# Altium footprint library PcbLib1.PcbLib: 16 footprints
Each footprint in its own frame and in the unit in brackets; x right, y up, seen from the top. Pads: shape width x height; smd on the part's side, far side on the other; paste and mask are expansions set on the pad; w line width, h text height; cw(c..) or ccw(c..) is an arc to the next point about the centre after c.
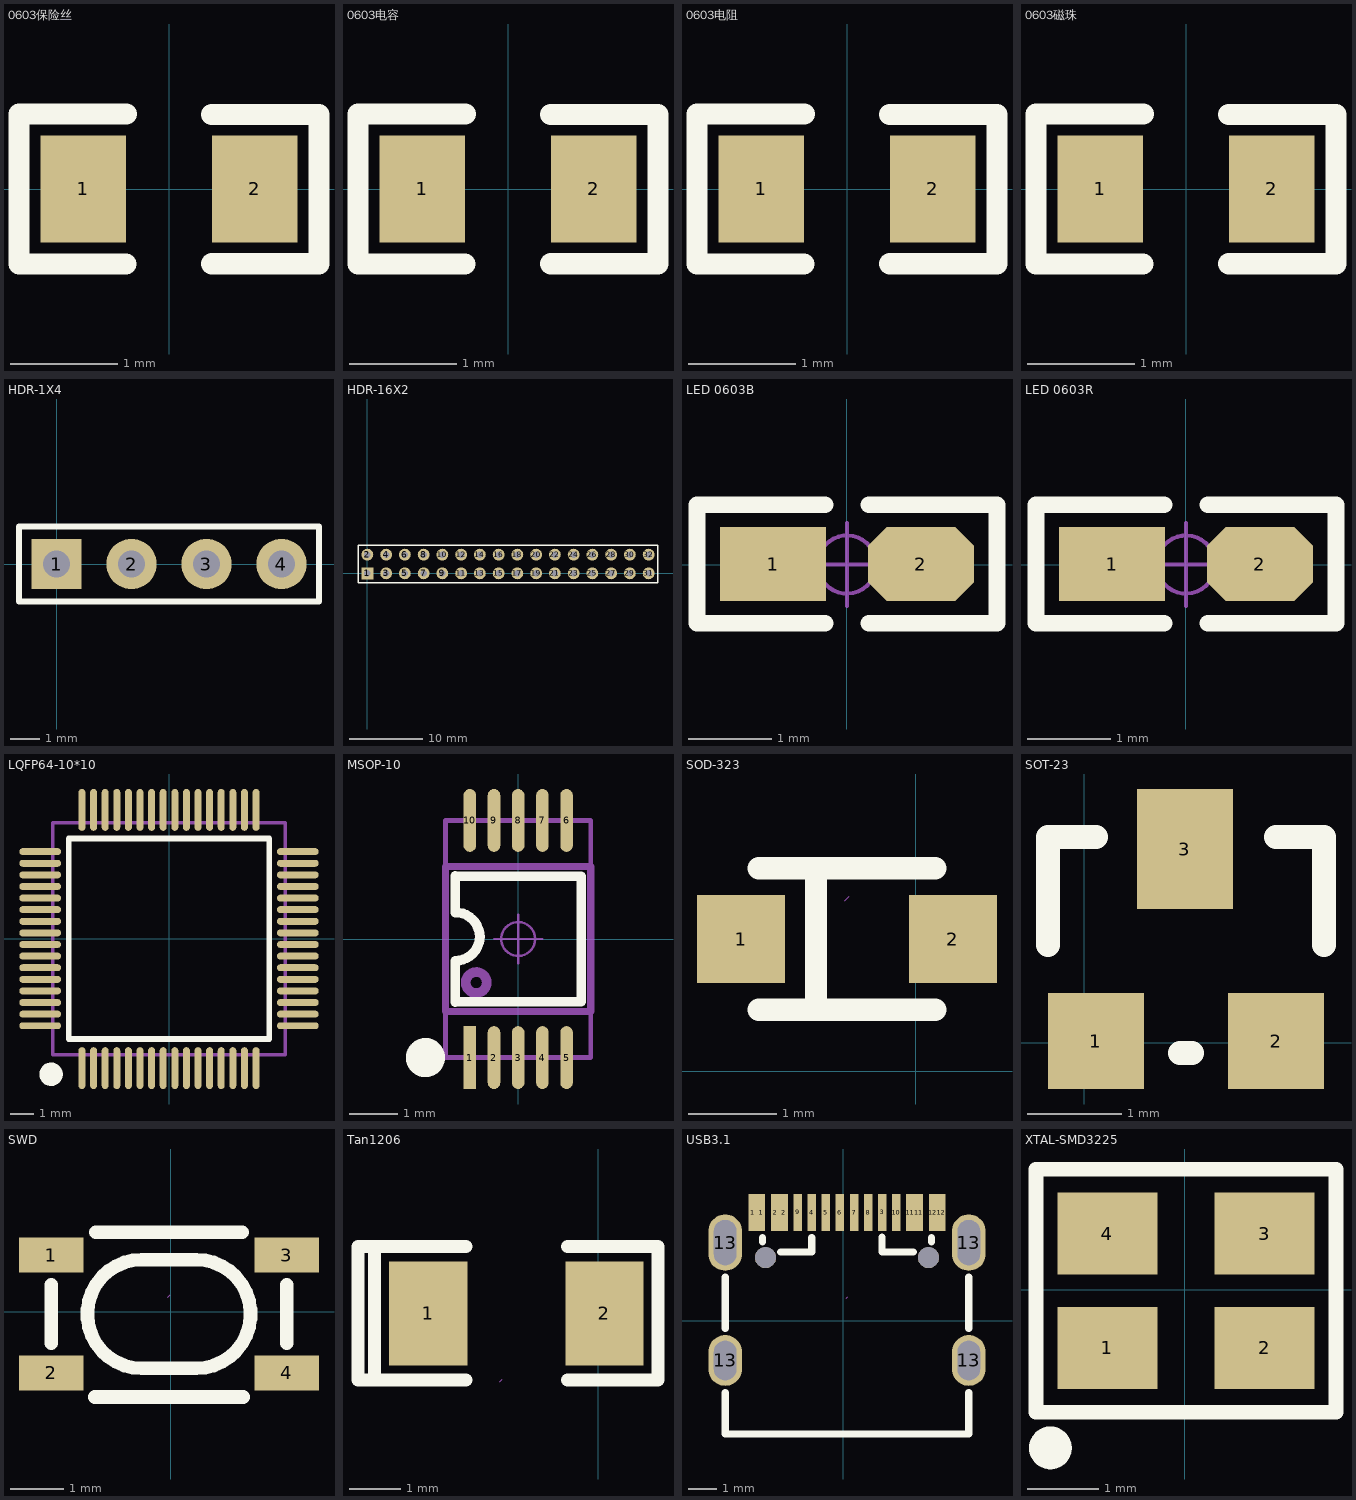
[diagram p0: the footprints below, top view; thin cyan lines are the x and y axes]

## 0603保险丝 [mm]
pads (2):
  rect 0.8x1 smd: 1(-0.8,0) 2(0.8,0)
Top Overlay:
  lines w0.2: -0.402,-0.7 -0.651,-0.7 -1.15,-0.7 -1.4,-0.7 -1.4,0.7 -0.4,0.7 ; 0.4,-0.698 1.4,-0.698 1.4,0.695 0.4,0.695
3D body "FU 0603.STEP": height 0.52, standoff 0, extent -0.8,-0.41 0.8,0.41

## 0603电容 [mm]
pads (2):
  rect 0.8x1 smd: 1(-0.8,0) 2(0.8,0)
Top Overlay:
  lines w0.2: -0.402,-0.7 -0.651,-0.7 -1.15,-0.7 -1.4,-0.7 -1.4,0.7 -0.4,0.7 ; 0.4,-0.698 1.4,-0.698 1.4,0.695 0.4,0.695
3D body "CAPC1608(0603).STEP": height 0.6, standoff 0, extent -0.8,-0.4 0.8,0.4

## 0603电阻 [mm]
pads (2):
  rect 0.8x1 smd: 1(-0.8,0) 2(0.8,0)
Top Overlay:
  lines w0.2: -0.402,-0.7 -0.651,-0.7 -1.15,-0.7 -1.4,-0.7 -1.4,0.7 -0.4,0.7 ; 0.4,-0.698 1.4,-0.698 1.4,0.695 0.4,0.695
3D body "R0603.STEP": height 0.45, standoff 0, extent -0.8,-0.4 0.8,0.4

## 0603磁珠 [mm]
pads (2):
  rect 0.8x1 smd: 1(-0.8,0) 2(0.8,0)
Top Overlay:
  lines w0.2: -0.402,-0.7 -0.651,-0.7 -1.15,-0.7 -1.4,-0.7 -1.4,0.7 -0.4,0.7 ; 0.4,-0.698 1.4,-0.698 1.4,0.695 0.4,0.695
3D body "0603.STEP": height 0.8, standoff 0, extent -0.8,-0.4 0.8,0.4

## HDR-1X4 [mm] "排针，4脚"
pads (4):
  rect 1.7x1.7 hole 0.9: 1(0,0)
  round 1.7 hole 0.9: 2(2.54,0) 3(5.08,0) 4(7.62,0)
Top Overlay:
  lines w0.2: -1.27,-1.27 8.89,-1.27 8.89,1.27 -1.27,1.27 -1.27,-1.27
3D body "HDR2.54-1P.STEP": height 8.5, standoff -3, extent 6.35,-1.27 8.89,1.27
3D body "HDR2.54-1P.STEP": height 8.5, standoff -3, extent 3.81,-1.27 6.35,1.27
3D body "HDR2.54-1P.STEP": height 8.5, standoff -3, extent 1.27,-1.27 3.81,1.27
3D body "HDR2.54-1P.STEP": height 8.5, standoff -3, extent -1.27,-1.27 1.27,1.27

## HDR-16X2 [mm] "双排排针，16x2脚"
pads (32):
  rect 1.6x1.6 hole 0.9: 1(0,0)
  round 1.6 hole 0.9: 2(0,2.54) 3(2.54,0) 4(2.54,2.54) 5(5.08,0) 6(5.08,2.54) 7(7.62,0) 8(7.62,2.54) 9(10.16,0) 10(10.16,2.54) 11(12.7,0) 12(12.7,2.54) 13(15.24,0) 14(15.24,2.54) 15(17.78,0) 16(17.78,2.54) 17(20.32,0) 18(20.32,2.54) 19(22.86,0) 20(22.86,2.54) 21(25.4,0) 22(25.4,2.54) 23(27.94,0) 24(27.94,2.54) 25(30.48,0) 26(30.48,2.54) 27(33.02,0) 28(33.02,2.54) 29(35.56,0) 30(35.56,2.54) 31(38.1,0) 32(38.1,2.54)
Top Overlay:
  lines w0.2: -1.27,-1.27 -1.27,3.81 39.37,3.81 39.37,-1.27 -1.27,-1.27
3D body "HDR2.54-1x2P.STEP": height 8.5, standoff -3, extent -1.27,-1.27 1.27,3.81
3D body "HDR2.54-1x2P.STEP": height 8.5, standoff -3, extent 1.27,-1.27 3.81,3.81
3D body "HDR2.54-1x2P.STEP": height 8.5, standoff -3, extent 3.81,-1.27 6.35,3.81
3D body "HDR2.54-1x2P.STEP": height 8.5, standoff -3, extent 6.35,-1.27 8.89,3.81
3D body "HDR2.54-1x2P.STEP": height 8.5, standoff -3, extent 8.89,-1.27 11.43,3.81
3D body "HDR2.54-1x2P.STEP": height 8.5, standoff -3, extent 11.43,-1.27 13.97,3.81
3D body "HDR2.54-1x2P.STEP": height 8.5, standoff -3, extent 13.97,-1.27 16.51,3.81
3D body "HDR2.54-1x2P.STEP": height 8.5, standoff -3, extent 16.51,-1.27 19.05,3.81
3D body "HDR2.54-1x2P.STEP": height 8.5, standoff -3, extent 19.05,-1.27 21.59,3.81
3D body "HDR2.54-1x2P.STEP": height 8.5, standoff -3, extent 21.59,-1.27 24.13,3.81
3D body "HDR2.54-1x2P.STEP": height 8.5, standoff -3, extent 24.13,-1.27 26.67,3.81
3D body "HDR2.54-1x2P.STEP": height 8.5, standoff -3, extent 26.67,-1.27 29.21,3.81
3D body "HDR2.54-1x2P.STEP": height 8.5, standoff -3, extent 34.29,-1.27 36.83,3.81
3D body "HDR2.54-1x2P.STEP": height 8.5, standoff -3, extent 31.75,-1.27 34.29,3.81
3D body "HDR2.54-1x2P.STEP": height 8.5, standoff -3, extent 29.21,-1.27 31.75,3.81
3D body "HDR2.54-1x2P.STEP": height 8.5, standoff -3, extent 36.83,-1.27 39.37,3.81

## LED 0603B [mil] "蓝色0603LED"
pads (2):
  rect 50x35 smd: 1(-35,0.26)
  oct 50x35 smd: 2(35,0.26)
Top Overlay:
  lines w7.87: -10.24,-27.74 -71,-27.74 -71,-25.74 -71,28.26 -70,28.26 -10.24,28.26 ; 10.24,-27.74 70,-27.74 ; 10.24,28.26 71,28.26 71,-27.74
Mechanical 15:
  circle w1.97: c0,0 r13.78
  lines w1.97: -19.68,0 19.68,0 ; 0,-19.68 0,19.68
3D body "LED 0603-B.STEP": height 18.34, standoff -0.16, extent -31.5,-15.8 31.5,15.78
3D body "LED 0603玻璃罩.STEP": height 23.82, standoff 8.07, extent -23.58,-15.79 23.59,15.79

## LED 0603R [mil] "红色0603LED"
pads (2):
  rect 50x35 smd: 1(-35,0.26)
  oct 50x35 smd: 2(35,0.26)
Top Overlay:
  lines w7.87: -71,-27.74 -10.24,-27.74 ; -71,-25.74 -71,28.26 ; -70,28.26 -10.24,28.26 ; 10.24,-27.74 70,-27.74 ; 10.24,28.26 71,28.26 71,-27.74
  lines w8: -71,-27.74 -71,-25.74 ; -71,28.26 -70,28.26
Mechanical 15:
  circle w1.97: c0,0 r13.78
  lines w1.97: -19.68,0 19.68,0 ; 0,-19.68 0,19.68
3D body "LED 0603-R.STEP": height 18.34, standoff -0.16, extent -31.5,-15.79 31.5,15.79
3D body "LED 0603玻璃罩.STEP": height 23.82, standoff 8.07, extent -23.58,-15.83 23.59,15.75

## LQFP64-10*10 [mm] "10x10mm，0.5mm"
height 1.6
pads (64):
  oval 0.3x1.8 smd: 1(-3.75,-5.575) 2(-3.25,-5.575) 3(-2.75,-5.575) 4(-2.25,-5.575) 5(-1.75,-5.575) 6(-1.25,-5.575) 7(-0.75,-5.575) 8(-0.25,-5.575) 9(0.25,-5.575) 10(0.75,-5.575) 11(1.25,-5.575) 12(1.75,-5.575) 13(2.25,-5.575) 14(2.75,-5.575) 15(3.25,-5.575) 16(3.75,-5.575) 33(3.75,5.55) 34(3.25,5.55) 35(2.75,5.55) 36(2.25,5.55) 37(1.75,5.55) 38(1.25,5.55) 39(0.75,5.55) 40(0.25,5.55) 41(-0.25,5.55) 42(-0.75,5.55) 43(-1.25,5.55) 44(-1.75,5.55) 45(-2.25,5.55) 46(-2.75,5.55) 47(-3.25,5.55) 48(-3.75,5.55)
  oval 1.8x0.3 smd: 17(5.55,-3.75) 18(5.55,-3.25) 19(5.55,-2.75) 20(5.55,-2.25) 21(5.55,-1.75) 22(5.55,-1.25) 23(5.55,-0.75) 24(5.55,-0.25) 25(5.55,0.25) 26(5.55,0.75) 27(5.55,1.25) 28(5.55,1.75) 29(5.55,2.25) 30(5.55,2.75) 31(5.55,3.25) 32(5.55,3.75) 49(-5.55,3.75) 50(-5.55,3.25) 51(-5.55,2.75) 52(-5.55,2.25) 53(-5.55,1.75) 54(-5.55,1.25) 55(-5.55,0.75) 56(-5.55,0.25) 57(-5.55,-0.25) 58(-5.55,-0.75) 59(-5.55,-1.25) 60(-5.55,-1.75) 61(-5.55,-2.25) 62(-5.55,-2.75) 63(-5.55,-3.25) 64(-5.55,-3.75)
Top Overlay:
  circle w0.508: c-5.08,-5.842 r0.25
  lines w0.254: -4.318,-4.318 4.318,-4.318 4.318,4.318 -4.318,4.318 -4.318,-4.318
Mechanical 13:
  lines w0.15: -5,-5 5,-5 5,5 -5,5 -5,-5
3D body "LQFP64-10x10.STEP": height 1.45, standoff 0, extent -6.003,-6.003 6.003,6.003

## MSOP-10 [mm] "塑封体长3mm，宽3mm，脚距0.5"
pads (10):
  rect 0.26x1.3 smd: 1(-1,-2.45)
  oval 0.26x1.3 smd: 2(-0.5,-2.45) 3(0,-2.45) 4(0.5,-2.45) 5(1,-2.45) 6(1,2.45) 7(0.5,2.45) 8(0,2.45) 9(-0.5,2.45) 10(-1,2.45)
Top Overlay:
  circle w0.5: c-1.917,-2.45 r0.155
  lines w0.2: -1.3,-1.3 1.3,-1.3 1.3,1.3 -1.3,1.3
  lines w0.203: -1.3,-1.3 -1.3,-0.46 ; -1.3,-0.45 ccw(c-1.3,0.058) -0.792,0.058 ; -1.3,0.55 cw(c-1.3,0.042) -0.792,0.042 ; -1.3,0.556 -1.3,1.3
Mechanical 13:
  circle w0.2: c-0.867,-0.9 r0.217
  lines w0.15: -1.5,-1.5 -1.5,1.5 1.5,1.5 1.5,-1.5 -1.5,-1.5
Mechanical 15:
  circle w0.05: c0,0 r0.35
  lines w0.05: -0.5,0 0.5,0 ; 0,-0.5 0,0.5
  lines w0.1: -1.5,-2.45 1.5,-2.45 1.5,2.45 -1.5,2.45 -1.5,-2.45
3D body "MSOP-10.STEP": height 0.95, standoff 0, extent -1.5,-2.45 1.5,2.45

## SOD-323 [mm] "1.8x1.3X0.9mm（长宽高，不包括引脚）"
pads (2):
  rect 1x1 smd: 1(-1.979,1.5) 2(0.421,1.5)
Top Overlay:
  lines w0.254: -1.779,0.7 0.221,0.7 ; -1.779,2.3 0.221,2.3 ; -1.13,0.7 -1.13,2.3
Mechanical 15:
  lines w0.003: -0.804,1.932 -0.754,1.983
3D body "SOD-323.STEP": height 0.95, standoff -0.01, extent -2.104,0.83 0.544,2.13

## SOT-23 [mil]
pads (3):
  rect 40x40 smd: 1(4.88,0.63) 2(79.88,0.63)
  rect 40x50 smd: 3(41.88,80.63)
Top Overlay:
  lines w10: -15.12,40.63 -15.12,85.63 4.88,85.63 ; 39.88,-4.37 44.88,-4.37 ; 79.88,85.63 99.88,85.63 99.88,40.63
3D body "SOT-23-3.STEP": height 47.24, standoff 0, extent -14.87,-11.01 99.31,99.22

## SWD [mm] "轻触开关3*4*2.5"
pads (4):
  rect 1.2x0.65 smd: 1(-2.229,1.059) 2(-2.229,-1.141) 3(2.171,1.059) 4(2.171,-1.141)
Top Overlay:
  lines w0.254: -2.229,-0.585 -2.229,0.503 ; -1.41,-1.591 1.352,-1.591 ; -1.395,1.483 1.337,1.483 ; 2.171,-0.585 2.171,0.503 ; -0.537,-1.057 cw(c-0.537,-0.041) -0.537,0.975 0.479,0.975 cw(c0.479,-0.041) 0.479,-1.057 -0.537,-1.057
Mechanical 15:
  lines w0.003: -0.054,0.27 -0.004,0.321

## Tan1206 [mil]
pads (2):
  rect 60x80 smd: 1(-130.37,282.16) 2(4.63,282.16)
Top Overlay:
  lines w10: -101.57,231.2 -119.69,231.2 -154.33,231.2 -171.65,231.2 ; -101.57,333.56 -118.9,333.56 -153.54,333.56 -171.65,333.56 ; -23.62,231.3 -7.09,231.3 27.56,231.3 45.67,231.3 45.67,257.48 45.67,305.91 45.67,333.66 28.35,333.66 -6.3,333.66 -23.62,333.66 ; -171.65,231.2 -184.25,231.2 -184.25,257.09 -184.25,308.27 -184.25,333.56 -171.65,333.56 ; -171.65,231.2 -171.65,258.96 -171.65,307.38 -171.65,333.56
Mechanical 15:
  lines w0.1: -75.79,229.87 -73.79,231.87
3D body "User Library-TAN1206.STEP": height 62.99, standoff 0, extent -125.19,251.18 0.79,314.18

## USB3.1 [mm]
pads (22):
  rect 0.3x1.3 smd: 1(-3.215,3.842) 1(-2.915,3.842) 2(-2.415,3.842) 2(-2.115,3.842) 3(1.385,3.843) 4(-1.115,3.842) 5(-0.615,3.842) 6(-0.115,3.842) 7(0.385,3.842) 8(0.885,3.842) 9(-1.615,3.843) 10(1.885,3.842) 11(2.385,3.842) 11(2.685,3.842) 12(3.185,3.842) 12(3.485,3.842)
  oval 1.2x1.8 hole 0.8 slot 1.4 at 90 deg: 13(-4.185,-1.405) 13(4.455,-1.405)
  oval 1.2x2 hole 0.8 slot 1.6 at 90 deg: 13(-4.185,2.775) 13(4.455,2.775)
  round 0.75 hole 0.75 unplated: ""(-2.755,2.245) ""(3.025,2.245)
Top Overlay:
  lines w0.254: -4.185,-2.537 -4.185,-4.008 4.455,-4.008 4.455,-2.537 ; -4.185,-0.274 -4.185,1.543 ; -2.865,2.802 -2.865,2.961 ; -2.222,2.44 -1.115,2.44 -1.115,2.961 ; 1.382,2.962 1.382,2.442 2.492,2.442 ; 3.132,2.802 3.132,2.961 ; 4.455,-0.274 4.455,1.543
Mechanical 15:
  lines w0.003: 0.11,0.8 0.16,0.85
3D body: height 0.25, standoff 0, extent -1.048,0.945 -1.048,0.945
3D body "User Library-USB Type C Port (SMD Type).STEP": height 3.2, standoff -1, extent -4.334,-4.068 4.606,3.832

## XTAL-SMD3225 [mm]
pads (4):
  rect 1.4x1.15 smd: 1(-1.08,-0.811) 2(1.12,-0.811) 3(1.12,0.789) 4(-1.08,0.789)
Top Overlay:
  lines w0.203: -2.08,-1.711 2.12,-1.711 2.12,1.689 -2.08,1.689 -2.08,-1.711
  lines w0.3: -1.88,-2.061 ccw(c-1.879,-2.211) -1.878,-2.061
3D body "User Library-晶振SG3225VAN.STEP": height 1.05, standoff -0.01, extent -1.594,-1.244 1.606,1.256